# EAGLE library part POLOLU_VNH5019_CARRIER (library will)
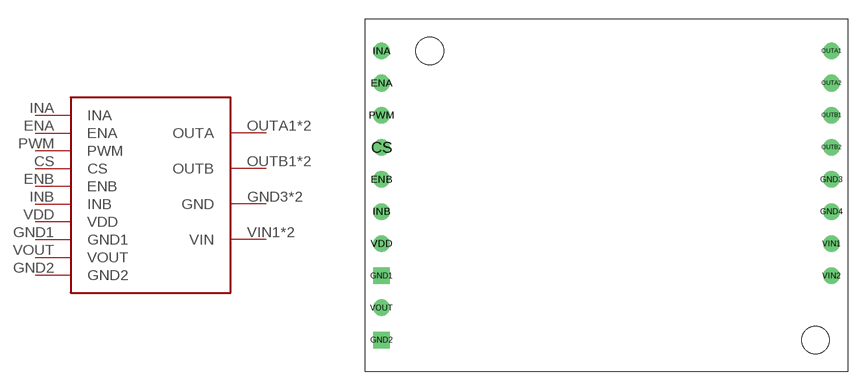
[diagram p3: symbol with the pads of VNH5019_CARRIER; footprint VNH5019_CARRIER]

Designator prefix ALL_PADS

## POLOLU_VNH5019_CARRIER, POLOLU_VNH5019_CARRIERINPUT_ONLY  [VNH5019_CARRIER]
CS  CS
ENA  ENA
ENB  ENB
GND1  GND1
GND2  GND2
GND3  GND
GND4  GND
INA  INA
INB  INB
OUTA1  OUTA
OUTA2  OUTA
OUTB1  OUTB
OUTB2  OUTB
PWM  PWM
VDD  VDD
VIN1  VIN
VIN2  VIN
VOUT  VOUT

## Footprint VNH5019_CARRIER (pad centres in mm)
drill 0.8: CS 1.27,17.78; ENA 1.27,22.86; ENB 1.27,15.24; GND3 36.83,15.24; GND4 36.83,12.7; INA 1.27,25.4; INB 1.27,12.7; OUTA1 36.83,25.4; OUTA2 36.83,22.86; OUTB1 36.83,20.32; OUTB2 36.83,17.78; PWM 1.27,20.32; VDD 1.27,10.16; VIN1 36.83,10.16; VIN2 36.83,7.62; VOUT 1.27,5.08
drill 0.8 square: GND1 1.27,7.62; GND2 1.27,2.54
hole 2.184 at 5.08,25.4
hole 2.184 at 35.56,2.54